# Altium footprint library C0402.PcbLib: 1 footprints
Each footprint in its own frame and in the unit in brackets; x right, y up, seen from the top. Pads: shape width x height; smd on the part's side, far side on the other; paste and mask are expansions set on the pad; w line width, h text height; cw(c..) or ccw(c..) is an arc to the next point about the centre after c.
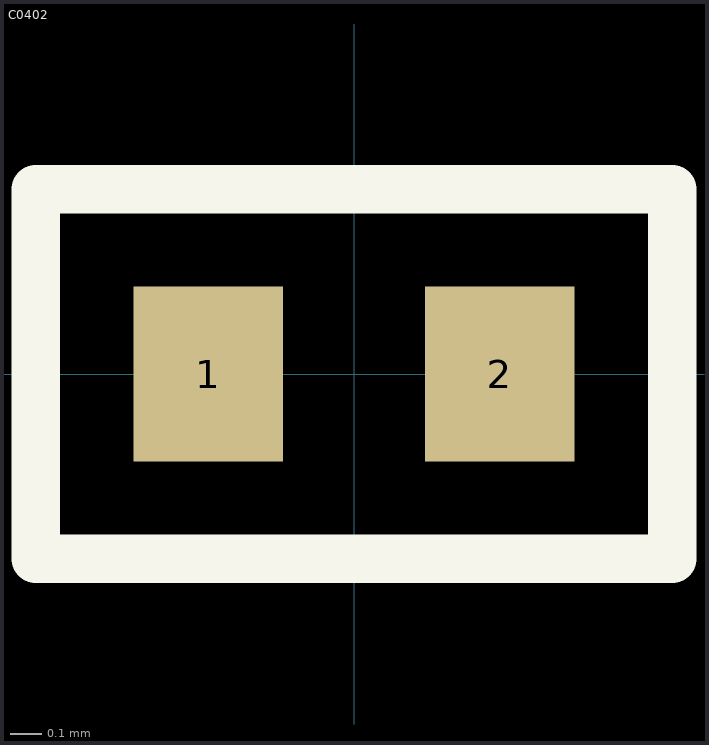
[diagram p0: the footprint, top view; thin cyan lines are the x and y axes]

## C0402 [mm] "Chip Capacitor; Body 1.0 x 0.5 mm (LxW typ)"
height 0.4
pads (2):
  rect 0.47x0.549 smd: 1(-0.458,0) 2(0.458,0)
Top Overlay:
  lines w0.152: -1,-0.58 1,-0.58 1,0.58 -1,0.58 -1,-0.58
3D body: height 0.27, standoff 0, extent -0.5,-0.251 0.5,0.251
3D body: height 0, standoff 0, extent -1,-0.58 1,0.58